# EAGLE library part POWERBOOST1000C (library teelsys-0.2)
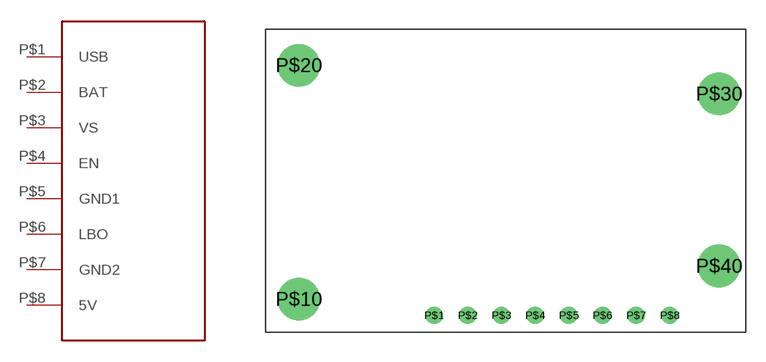
[diagram p9: symbol with the pads of ADAFRUIT2465; footprint ADAFRUIT2465]

Designator prefix -

## POWERBOOST1000C  [ADAFRUIT2465]
P$1  USB
P$2  BAT
P$3  VS
P$4  EN
P$5  GND1
P$6  LBO
P$7  GND2
P$8  5V

## Footprint ADAFRUIT2465 (pad centres in mm)
drill 0.8: P$1 12.7,1.27; P$2 15.24,1.27; P$3 17.78,1.27; P$4 20.32,1.27; P$5 22.86,1.27; P$6 25.4,1.27; P$7 27.94,1.27; P$8 30.48,1.27
drill 2.2: P$10 2.5,2.5; P$20 2.5,20.15; P$30 34.2,18; P$40 34.2,5